# Altium schematic symbol library supply1.SCHLIB: 28 symbols
Pins are listed as number, name and electrical type; pins without a type are passive.

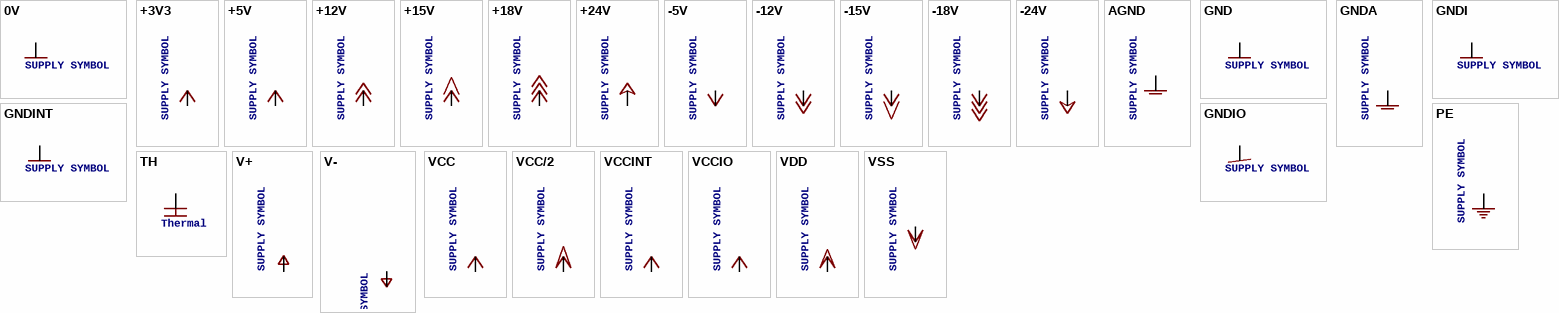
[diagram p0: symbols 0V to VSS]

## 0V
designator GND?, comment SUPPLY SYMBOL
pins: ?1 0V (oe)

## +3V3
designator +3V3?, comment SUPPLY SYMBOL
pins: ?1 +3V3 (oe)

## +5V
designator P+?, comment SUPPLY SYMBOL
pins: ?1 +5V (oe)

## +12V
designator P+?, comment SUPPLY SYMBOL
pins: ?1 +12V (oe)

## +15V
designator P+?, comment SUPPLY SYMBOL
pins: ?1 +15V (oe)

## +18V
designator P+?, comment SUPPLY SYMBOL
pins: ?1 +18V (oe)

## +24V
designator P+?, comment SUPPLY SYMBOL
pins: ?1 +24V (oe)

## -5V
designator P-?, comment SUPPLY SYMBOL
pins: ?1 -5V (oe)

## -12V
designator P-?, comment SUPPLY SYMBOL
pins: ?1 -12V (oe)

## -15V
designator P-?, comment SUPPLY SYMBOL
pins: ?1 -15V (oe)

## -18V
designator P-?, comment SUPPLY SYMBOL
pins: ?1 -18V (oe)

## -24V
designator P-?, comment SUPPLY SYMBOL
pins: ?1 -24V (oe)

## AGND
designator AGND?, comment SUPPLY SYMBOL
pins: ?1 AGND (oe)

## GND
designator GND?, comment SUPPLY SYMBOL
pins: ?1 GND (oe)

## GNDA
designator GND?, comment SUPPLY SYMBOL
pins: ?1 GNDA (oe)

## GNDI
designator GNDI?, comment SUPPLY SYMBOL
pins: ?1 GNDI (oe)

## GNDINT
designator GND?, comment SUPPLY SYMBOL
pins: ?1 GNDINT (oe)

## GNDIO
designator GND?, comment SUPPLY SYMBOL
pins: ?1 GNDIO (oe)

## PE
designator PE?, comment SUPPLY SYMBOL
pins: ?1 PE (oe)

## TH
designator TH?, comment Thermal
pins: ?1 TH (oe)

## V+
designator P+?, comment SUPPLY SYMBOL
pins: ?1 V+ (oe)

## V-
designator P-?, comment SUPPLY SYMBOL
pins: ?1 V- (oe)

## VCC
designator P+?, comment SUPPLY SYMBOL
pins: ?1 VCC (oe)

## VCC/2
designator P+?, comment SUPPLY SYMBOL
pins: ?1 VCC/2 (oe)

## VCCINT
designator VCC?, comment SUPPLY SYMBOL
pins: ?1 VCCINT (oe)

## VCCIO
designator VCC?, comment SUPPLY SYMBOL
pins: ?1 VCCIO (oe)

## VDD
designator VDD?, comment SUPPLY SYMBOL
pins: ?1 VDD (oe)

## VSS
designator VSS?, comment SUPPLY SYMBOL
pins: ?1 VSS (oe)